# Altium footprint library FPC1.25.PcbLib: 37 footprints (part 2 of 3)
Each footprint in its own frame and in the unit in brackets; x right, y up, seen from the top. Pads: shape width x height; smd on the part's side, far side on the other; paste and mask are expansions set on the pad; w line width, h text height; cw(c..) or ccw(c..) is an arc to the next point about the centre after c.
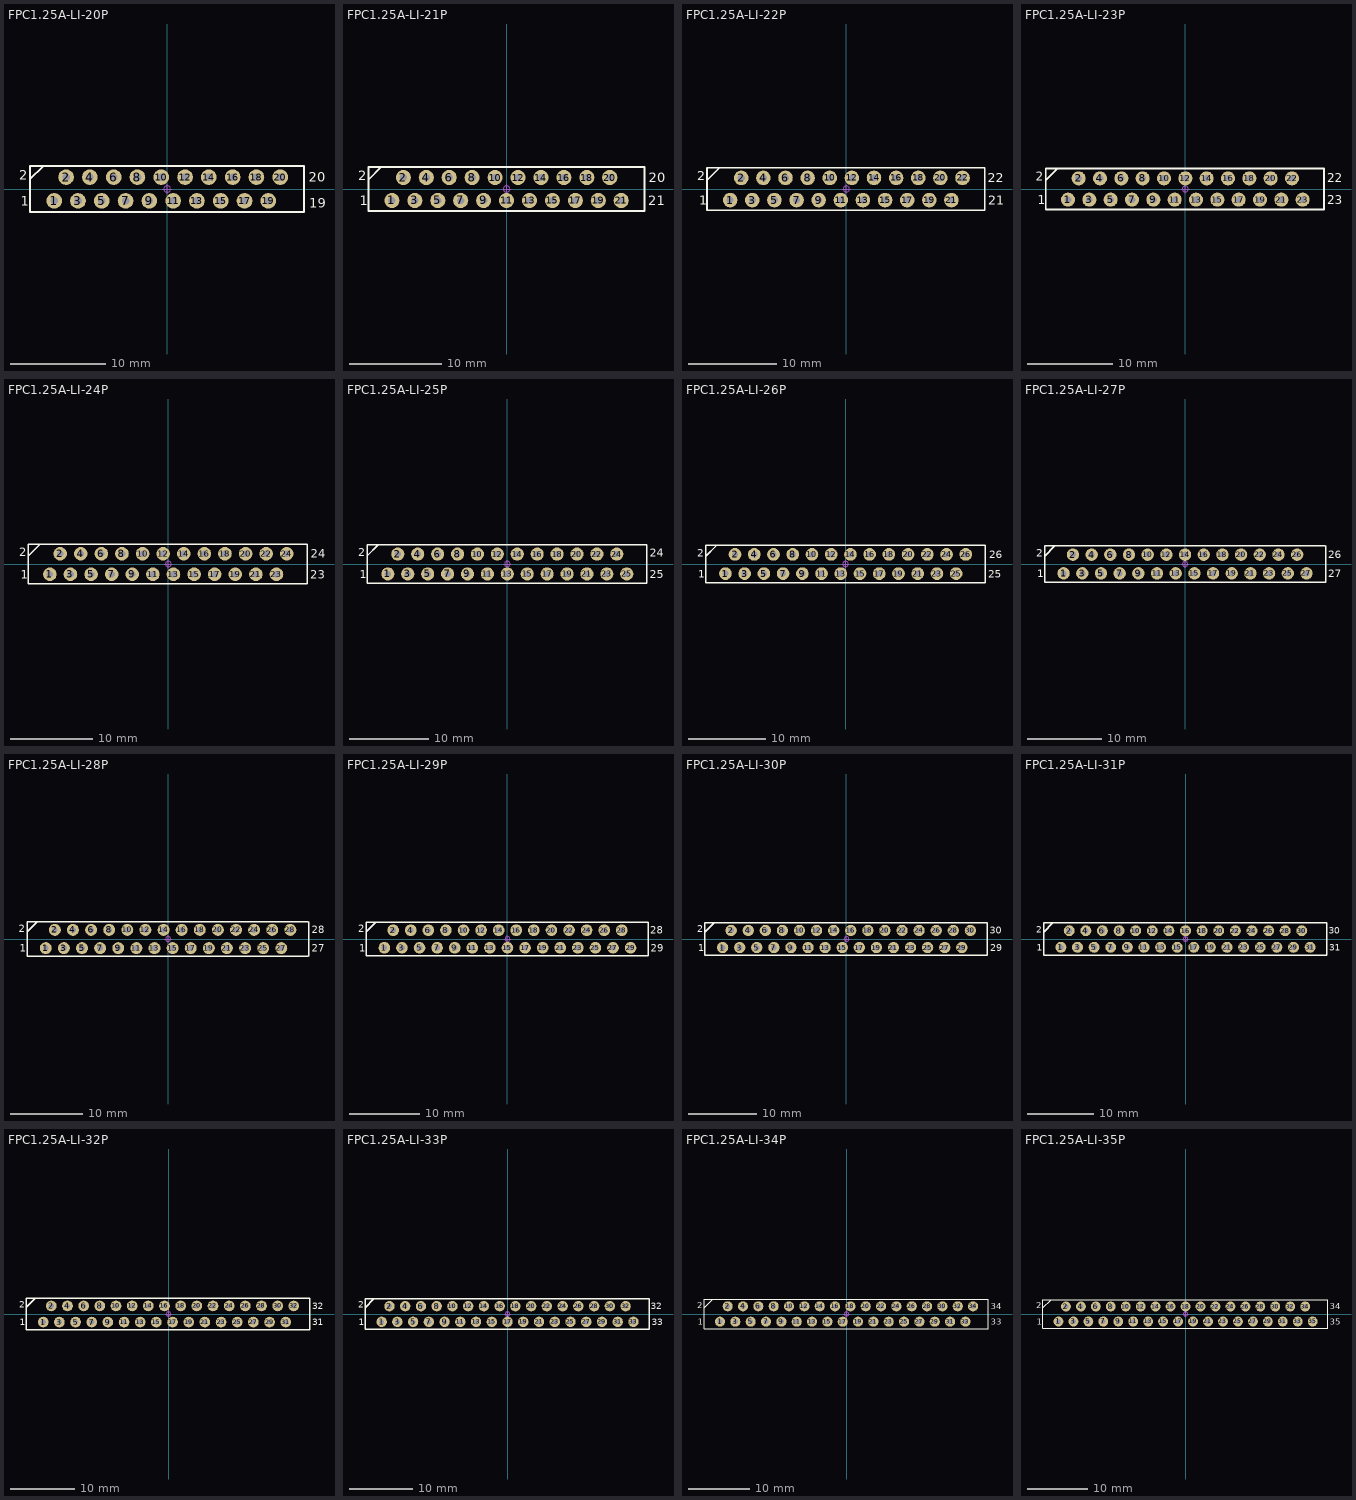
[diagram p1: the footprints below, top view; thin cyan lines are the x and y axes]

## FPC1.25A-LI-20P [mm] "20脚，长：28.5mm，宽：4.5mm，高：7.3mm"
pads (20):
  round 1.65 hole 0.8: 1(-11.875,-1.25) 2(-10.625,1.25) 3(-9.375,-1.25) 4(-8.125,1.25) 5(-6.875,-1.25) 6(-5.625,1.25) 7(-4.375,-1.25) 8(-3.125,1.25) 9(-1.875,-1.25) 10(-0.625,1.25) 11(0.625,-1.25) 12(1.875,1.25) 13(3.125,-1.25) 14(4.375,1.25) 15(5.625,-1.25) 16(6.875,1.25) 17(8.125,-1.25) 18(9.375,1.25) 19(10.625,-1.25) 20(11.875,1.25)
Top Overlay:
  lines w0.2: -14.428,1.016 -13.031,2.413 ; -14.428,-2.413 -14.428,2.413 14.375,2.413 14.375,-2.413 -14.428,-2.413
  text "19" at 14.934,-1.981 h1.02
  text "20" at 14.883,0.762 h1.02
  text "2" at -15.571,0.965 h1.02
  text "1" at -15.367,-1.778 h1.02
Mechanical 15:
  circle w0.05: c0,0 r0.35
  lines w0.05: -0.5,0 0.5,0 ; 0,-0.5 0,0.5
3D body: height 7.3, standoff -2.55, extent -14.3,-2.25 14.3,2.25

## FPC1.25A-LI-21P [mm] "21脚，长：29.9mm，宽：4.5mm，高：7.3mm"
pads (21):
  round 1.65 hole 0.8: 1(-12.5,-1.25) 2(-11.25,1.25) 3(-10,-1.25) 4(-8.75,1.25) 5(-7.5,-1.25) 6(-6.25,1.25) 7(-5,-1.25) 8(-3.75,1.25) 9(-2.5,-1.25) 10(-1.25,1.25) 11(0,-1.25) 12(1.25,1.25) 13(2.5,-1.25) 14(3.75,1.25) 15(5,-1.25) 16(6.25,1.25) 17(7.5,-1.25) 18(8.75,1.25) 19(10,-1.25) 20(11.25,1.25) 21(12.5,-1.25)
Top Overlay:
  lines w0.2: -15.053,1.016 -13.656,2.413 ; -15.053,-2.413 -15.053,2.413 15.053,2.413 15.053,-2.413 -15.053,-2.413
  text "21" at 15.434,-1.778 h1.02
  text "20" at 15.494,0.762 h1.02
  text "2" at -16.196,0.965 h1.02
  text "1" at -16.002,-1.778 h1.02
Mechanical 15:
  circle w0.05: c0,0 r0.35
  lines w0.05: -0.5,0 0.5,0 ; 0,-0.5 0,0.5
3D body: height 7.3, standoff -2.55, extent -14.95,-2.25 14.95,2.25

## FPC1.25A-LI-22P [mm] "22脚，长：31mm，宽：4.5mm，高：7.3mm"
pads (22):
  round 1.65 hole 0.8: 1(-13.125,-1.25) 2(-11.875,1.25) 3(-10.625,-1.25) 4(-9.375,1.25) 5(-8.125,-1.25) 6(-6.875,1.25) 7(-5.625,-1.25) 8(-4.375,1.25) 9(-3.125,-1.25) 10(-1.875,1.25) 11(-0.625,-1.25) 12(0.625,1.25) 13(1.875,-1.25) 14(3.125,1.25) 15(4.375,-1.25) 16(5.625,1.25) 17(6.875,-1.25) 18(8.125,1.25) 19(9.375,-1.25) 20(10.625,1.25) 21(11.875,-1.25) 22(13.125,1.25)
Top Overlay:
  lines w0.2: -15.731,1.016 -14.334,2.413 ; -15.731,-2.413 -15.731,2.413 15.625,2.413 15.625,-2.413 -15.731,-2.413
  text "21" at 16.006,-1.778 h1.02
  text "22" at 16.002,0.762 h1.02
  text "2" at -16.874,0.965 h1.02
  text "1" at -16.637,-1.778 h1.02
Mechanical 15:
  circle w0.05: c0,0 r0.35
  lines w0.05: -0.5,0 0.5,0 ; 0,-0.5 0,0.5
3D body: height 7.3, standoff -2.55, extent -15.55,-2.25 15.55,2.25

## FPC1.25A-LI-23P [mm] "23脚，长：32.25mm，宽：4.5mm，高：7.3mm"
pads (23):
  round 1.65 hole 0.8: 1(-13.75,-1.25) 2(-12.5,1.25) 3(-11.25,-1.25) 4(-10,1.25) 5(-8.75,-1.25) 6(-7.5,1.25) 7(-6.25,-1.25) 8(-5,1.25) 9(-3.75,-1.25) 10(-2.5,1.25) 11(-1.25,-1.25) 12(0,1.25) 13(1.25,-1.25) 14(2.5,1.25) 15(3.75,-1.25) 16(5,1.25) 17(6.25,-1.25) 18(7.5,1.25) 19(8.75,-1.25) 20(10,1.25) 21(11.25,-1.25) 22(12.5,1.25) 23(13.75,-1.25)
Top Overlay:
  lines w0.2: -16.356,1.016 -14.959,2.413 ; -16.356,-2.413 16.25,-2.413 16.25,2.413 -16.356,2.413 -16.356,-2.413
  text "1" at -17.272,-1.778 h1.02
  text "2" at -17.499,0.965 h1.02
  text "22" at 16.637,0.762 h1.02
  text "23" at 16.631,-1.778 h1.02
Mechanical 15:
  circle w0.05: c0,0 r0.35
  lines w0.05: -0.5,0 0.5,0 ; 0,-0.5 0,0.5
3D body: height 7.3, standoff -2.55, extent -16.175,-2.25 16.175,2.25

## FPC1.25A-LI-24P [mm] "24脚，长：33.5mm，宽：4.5mm，高：7.3mm"
pads (24):
  round 1.65 hole 0.8: 1(-14.375,-1.25) 2(-13.125,1.25) 3(-11.875,-1.25) 4(-10.625,1.25) 5(-9.375,-1.25) 6(-8.125,1.25) 7(-6.875,-1.25) 8(-5.625,1.25) 9(-4.375,-1.25) 10(-3.125,1.25) 11(-1.875,-1.25) 12(-0.625,1.25) 13(0.625,-1.25) 14(1.875,1.25) 15(3.125,-1.25) 16(4.375,1.25) 17(5.625,-1.25) 18(6.875,1.25) 19(8.125,-1.25) 20(9.375,1.25) 21(10.625,-1.25) 22(11.875,1.25) 23(13.125,-1.25) 24(14.375,1.25)
Top Overlay:
  lines w0.2: -16.981,1.016 -15.584,2.413 ; -16.981,-2.413 -16.981,2.413 16.875,2.413 16.875,-2.413 -16.981,-2.413
  text "23" at 17.256,-1.778 h1.02
  text "24" at 17.272,0.762 h1.02
  text "2" at -18.124,0.965 h1.02
  text "1" at -17.907,-1.778 h1.02
Mechanical 15:
  circle w0.05: c0,0 r0.35
  lines w0.05: -0.5,0 0.5,0 ; 0,-0.5 0,0.5
3D body: height 7.3, standoff -2.55, extent -16.8,-2.25 16.8,2.25

## FPC1.25A-LI-25P [mm] "25脚，长：34.75mm，宽：4.5mm，高：7.3mm"
pads (25):
  round 1.65 hole 0.8: 1(-15,-1.25) 2(-13.75,1.25) 3(-12.5,-1.25) 4(-11.25,1.25) 5(-10,-1.25) 6(-8.75,1.25) 7(-7.5,-1.25) 8(-6.25,1.25) 9(-5,-1.25) 10(-3.75,1.25) 11(-2.5,-1.25) 12(-1.25,1.25) 13(0,-1.25) 14(1.25,1.25) 15(2.5,-1.25) 16(3.75,1.25) 17(5,-1.25) 18(6.25,1.25) 19(7.5,-1.25) 20(8.75,1.25) 21(10,-1.25) 22(11.25,1.25) 23(12.5,-1.25) 24(13.75,1.25) 25(15,-1.25)
Top Overlay:
  lines w0.2: -17.606,1.016 -16.209,2.413 ; -17.606,-2.413 17.5,-2.413 17.5,2.413 -17.606,2.413 -17.606,-2.413
  text "1" at -18.542,-1.778 h1.02
  text "2" at -18.749,0.965 h1.02
  text "24" at 17.907,0.889 h1.02
  text "25" at 17.881,-1.778 h1.02
Mechanical 15:
  circle w0.05: c0,0 r0.35
  lines w0.05: -0.5,0 0.5,0 ; 0,-0.5 0,0.5
3D body: height 7.3, standoff -2.55, extent -17.425,-2.25 17.425,2.25

## FPC1.25A-LI-26P [mm] "26脚，长：36mm，宽：4.5mm，高：7.3mm"
pads (26):
  round 1.65 hole 0.8: 1(-15.625,-1.25) 2(-14.375,1.25) 3(-13.125,-1.25) 4(-11.875,1.25) 5(-10.625,-1.25) 6(-9.375,1.25) 7(-8.125,-1.25) 8(-6.875,1.25) 9(-5.625,-1.25) 10(-4.375,1.25) 11(-3.125,-1.25) 12(-1.875,1.25) 13(-0.625,-1.25) 14(0.625,1.25) 15(1.875,-1.25) 16(3.125,1.25) 17(4.375,-1.25) 18(5.625,1.25) 19(6.875,-1.25) 20(8.125,1.25) 21(9.375,-1.25) 22(10.625,1.25) 23(11.875,-1.25) 24(13.125,1.25) 25(14.375,-1.25) 26(15.625,1.25)
Top Overlay:
  lines w0.2: -18.178,1.016 -16.781,2.413 ; -18.178,-2.413 18.178,-2.413 18.178,2.413 -18.178,2.413 -18.178,-2.413
  text "1" at -19.177,-1.778 h1.02
  text "2" at -19.321,0.965 h1.02
  text "26" at 18.669,0.762 h1.02
  text "25" at 18.559,-1.778 h1.02
Mechanical 15:
  circle w0.05: c0,0 r0.35
  lines w0.05: -0.5,0 0.5,0 ; 0,-0.5 0,0.5
3D body: height 7.3, standoff -2.55, extent -18.05,-2.25 18.05,2.25

## FPC1.25A-LI-27P [mm] "27脚，长：37.25mm，宽：4.5mm，高：7.3mm"
pads (27):
  round 1.65 hole 0.8: 1(-16.25,-1.25) 2(-15,1.25) 3(-13.75,-1.25) 4(-12.5,1.25) 5(-11.25,-1.25) 6(-10,1.25) 7(-8.75,-1.25) 8(-7.5,1.25) 9(-6.25,-1.25) 10(-5,1.25) 11(-3.75,-1.25) 12(-2.5,1.25) 13(-1.25,-1.25) 14(0,1.25) 15(1.25,-1.25) 16(2.5,1.25) 17(3.75,-1.25) 18(5,1.25) 19(6.25,-1.25) 20(7.5,1.25) 21(8.75,-1.25) 22(10,1.25) 23(11.25,-1.25) 24(12.5,1.25) 25(13.75,-1.25) 26(15,1.25) 27(16.25,-1.25)
Top Overlay:
  lines w0.2: -18.803,1.016 -17.406,2.413 ; 18.75,2.413 -18.803,2.413 -18.803,-2.413 18.803,-2.413 18.803,2.413
  text "27" at 19.184,-1.778 h1.02
  text "26" at 19.177,0.762 h1.02
  text "2" at -19.946,0.965 h1.02
  text "1" at -19.812,-1.778 h1.02
Mechanical 15:
  circle w0.05: c0,0 r0.35
  lines w0.05: -0.5,0 0.5,0 ; 0,-0.5 0,0.5
3D body: height 7.3, standoff -2.55, extent -18.675,-2.25 18.675,2.25

## FPC1.25A-LI-28P [mm] "28脚，长：38.7mm，宽：4.5mm，高：7.3mm"
pads (28):
  round 1.65 hole 0.8: 1(-16.875,-1.25) 2(-15.625,1.25) 3(-14.375,-1.25) 4(-13.125,1.25) 5(-11.875,-1.25) 6(-10.625,1.25) 7(-9.375,-1.25) 8(-8.125,1.25) 9(-6.875,-1.25) 10(-5.625,1.25) 11(-4.375,-1.25) 12(-3.125,1.25) 13(-1.875,-1.25) 14(-0.625,1.25) 15(0.625,-1.25) 16(1.875,1.25) 17(3.125,-1.25) 18(4.375,1.25) 19(5.625,-1.25) 20(6.875,1.25) 21(8.125,-1.25) 22(9.375,1.25) 23(10.625,-1.25) 24(11.875,1.25) 25(13.125,-1.25) 26(14.375,1.25) 27(15.625,-1.25) 28(16.875,1.25)
Top Overlay:
  lines w0.2: -19.428,1.016 -18.031,2.413 ; 19.35,-2.413 -19.428,-2.413 -19.428,2.413 19.375,2.413 ; 19.428,-2.413 19.428,2.413
  text "27" at 19.809,-1.778 h1.02
  text "28" at 19.812,0.762 h1.02
  text "2" at -20.571,0.965 h1.02
  text "1" at -20.447,-1.778 h1.02
Mechanical 15:
  circle w0.05: c0,0 r0.35
  lines w0.05: -0.5,0 0.5,0 ; 0,-0.5 0,0.5
3D body: height 7.3, standoff -2.55, extent -19.35,-2.25 19.35,2.25

## FPC1.25A-LI-29P [mm] "29脚，长：39.75mm，宽：4.5mm，高：7.3mm"
pads (29):
  round 1.65 hole 0.8: 1(-17.5,-1.25) 2(-16.25,1.25) 3(-15,-1.25) 4(-13.75,1.25) 5(-12.5,-1.25) 6(-11.25,1.25) 7(-10,-1.25) 8(-8.75,1.25) 9(-7.5,-1.25) 10(-6.25,1.25) 11(-5,-1.25) 12(-3.75,1.25) 13(-2.5,-1.25) 14(-1.25,1.25) 15(0,-1.25) 16(1.25,1.25) 17(2.5,-1.25) 18(3.75,1.25) 19(5,-1.25) 20(6.25,1.25) 21(7.5,-1.25) 22(8.75,1.25) 23(10,-1.25) 24(11.25,1.25) 25(12.5,-1.25) 26(13.75,1.25) 27(15,-1.25) 28(16.25,1.25) 29(17.5,-1.25)
Top Overlay:
  lines w0.2: -20.106,1.016 -18.709,2.413 ; -20.106,-2.413 20,-2.413 20,2.413 -20.106,2.413 -20.106,-2.413
  text "1" at -21.082,-1.778 h1.02
  text "2" at -21.249,0.965 h1.02
  text "28" at 20.32,0.762 h1.02
  text "29" at 20.381,-1.778 h1.02
Mechanical 15:
  circle w0.05: c0,0 r0.35
  lines w0.05: -0.5,0 0.5,0 ; 0,-0.5 0,0.5
3D body: height 7.3, standoff -2.55, extent -19.925,-2.25 19.925,2.25

## FPC1.25A-LI-30P [mm] "30脚，长：41mm，宽：4.5mm，高：7.3mm"
pads (30):
  round 1.65 hole 0.8: 1(-18.125,-1.25) 2(-16.875,1.25) 3(-15.625,-1.25) 4(-14.375,1.25) 5(-13.125,-1.25) 6(-11.875,1.25) 7(-10.625,-1.25) 8(-9.375,1.25) 9(-8.125,-1.25) 10(-6.875,1.25) 11(-5.625,-1.25) 12(-4.375,1.25) 13(-3.125,-1.25) 14(-1.875,1.25) 15(-0.625,-1.25) 16(0.625,1.25) 17(1.875,-1.25) 18(3.125,1.25) 19(4.375,-1.25) 20(5.625,1.25) 21(6.875,-1.25) 22(8.125,1.25) 23(9.375,-1.25) 24(10.625,1.25) 25(11.875,-1.25) 26(13.125,1.25) 27(14.375,-1.25) 28(15.625,1.25) 29(16.875,-1.25) 30(18.125,1.25)
Top Overlay:
  lines w0.2: -20.731,1.016 -19.334,2.413 ; -20.731,-2.413 20.625,-2.413 20.625,2.413 -20.731,2.413 -20.731,-2.413
  text "1" at -21.717,-1.778 h1.02
  text "2" at -21.874,0.965 h1.02
  text "30" at 20.955,0.762 h1.02
  text "29" at 21.006,-1.778 h1.02
Mechanical 15:
  circle w0.05: c0,0 r0.35
  lines w0.05: -0.5,0 0.5,0 ; 0,-0.5 0,0.5
3D body: height 7.3, standoff -2.55, extent -20.55,-2.25 20.55,2.25

## FPC1.25A-LI-31P [mm] "31脚，长：42.25mm，宽：4.5mm，高：7.3mm"
pads (31):
  round 1.65 hole 0.8: 1(-18.75,-1.25) 2(-17.5,1.25) 3(-16.25,-1.25) 4(-15,1.25) 5(-13.75,-1.25) 6(-12.5,1.25) 7(-11.25,-1.25) 8(-10,1.25) 9(-8.75,-1.25) 10(-7.5,1.25) 11(-6.25,-1.25) 12(-5,1.25) 13(-3.75,-1.25) 14(-2.5,1.25) 15(-1.25,-1.25) 16(0,1.25) 17(1.25,-1.25) 18(2.5,1.25) 19(3.75,-1.25) 20(5,1.25) 21(6.25,-1.25) 22(7.5,1.25) 23(8.75,-1.25) 24(10,1.25) 25(11.25,-1.25) 26(12.5,1.25) 27(13.75,-1.25) 28(15,1.25) 29(16.25,-1.25) 30(17.5,1.25) 31(18.75,-1.25)
Top Overlay:
  lines w0.2: -21.356,1.016 -19.959,2.413 ; -21.356,-2.413 -21.356,2.413 21.25,2.413 21.25,-2.413 -21.356,-2.413
  text "31" at 21.631,-1.778 h1.02
  text "30" at 21.59,0.762 h1.02
  text "2" at -22.499,0.965 h1.02
  text "1" at -22.352,-1.778 h1.02
Mechanical 15:
  circle w0.05: c0,0 r0.35
  lines w0.05: -0.5,0 0.5,0 ; 0,-0.5 0,0.5
3D body: height 7.3, standoff -2.55, extent -21.175,-2.25 21.175,2.25

## FPC1.25A-LI-32P [mm] "32脚，长：43.5mm，宽：4.5mm，高：7.3mm"
pads (32):
  round 1.65 hole 0.8: 1(-19.375,-1.25) 2(-18.125,1.25) 3(-16.875,-1.25) 4(-15.625,1.25) 5(-14.375,-1.25) 6(-13.125,1.25) 7(-11.875,-1.25) 8(-10.625,1.25) 9(-9.375,-1.25) 10(-8.125,1.25) 11(-6.875,-1.25) 12(-5.625,1.25) 13(-4.375,-1.25) 14(-3.125,1.25) 15(-1.875,-1.25) 16(-0.625,1.25) 17(0.625,-1.25) 18(1.875,1.25) 19(3.125,-1.25) 20(4.375,1.25) 21(5.625,-1.25) 22(6.875,1.25) 23(8.125,-1.25) 24(9.375,1.25) 25(10.625,-1.25) 26(11.875,1.25) 27(13.125,-1.25) 28(14.375,1.25) 29(15.625,-1.25) 30(16.875,1.25) 31(18.125,-1.25) 32(19.375,1.25)
Top Overlay:
  lines w0.2: -21.981,1.016 -20.584,2.413 ; -21.981,-2.413 -21.981,2.413 21.875,2.413 21.875,-2.413 -21.981,-2.413
  text "31" at 22.256,-1.778 h1.02
  text "32" at 22.225,0.762 h1.02
  text "2" at -23.124,0.965 h1.02
  text "1" at -22.987,-1.778 h1.02
Mechanical 15:
  circle w0.05: c0,0 r0.35
  lines w0.05: -0.5,0 0.5,0 ; 0,-0.5 0,0.5
3D body: height 7.3, standoff -2.55, extent -21.8,-2.25 21.8,2.25

## FPC1.25A-LI-33P [mm] "33脚，长：44.75mm，宽：4.5mm，高：7.3mm"
pads (33):
  round 1.65 hole 0.8: 1(-20,-1.25) 2(-18.75,1.25) 3(-17.5,-1.25) 4(-16.25,1.25) 5(-15,-1.25) 6(-13.75,1.25) 7(-12.5,-1.25) 8(-11.25,1.25) 9(-10,-1.25) 10(-8.75,1.25) 11(-7.5,-1.25) 12(-6.25,1.25) 13(-5,-1.25) 14(-3.75,1.25) 15(-2.5,-1.25) 16(-1.25,1.25) 17(0,-1.25) 18(1.25,1.25) 19(2.5,-1.25) 20(3.75,1.25) 21(5,-1.25) 22(6.25,1.25) 23(7.5,-1.25) 24(8.75,1.25) 25(10,-1.25) 26(11.25,1.25) 27(12.5,-1.25) 28(13.75,1.25) 29(15,-1.25) 30(16.25,1.25) 31(17.5,-1.25) 32(18.75,1.25) 33(20,-1.25)
Top Overlay:
  lines w0.2: -22.606,1.016 -21.209,2.413 ; -22.606,-2.413 -22.606,2.413 22.5,2.413 22.5,-2.413 -22.606,-2.413
  text "33" at 22.881,-1.778 h1.02
  text "32" at 22.733,0.762 h1.02
  text "2" at -23.749,0.965 h1.02
  text "1" at -23.622,-1.778 h1.02
Mechanical 15:
  circle w0.05: c0,0 r0.35
  lines w0.05: -0.5,0 0.5,0 ; 0,-0.5 0,0.5
3D body: height 7.3, standoff -2.55, extent -22.425,-2.25 22.425,2.25

## FPC1.25A-LI-34P [mm] "34脚，长：46mm，宽：4.5mm，高：7.3mm"
pads (34):
  round 1.65 hole 0.8: 1(-20.625,-1.25) 2(-19.375,1.25) 3(-18.125,-1.25) 4(-16.875,1.25) 5(-15.625,-1.25) 6(-14.375,1.25) 7(-13.125,-1.25) 8(-11.875,1.25) 9(-10.625,-1.25) 10(-9.375,1.25) 11(-8.125,-1.25) 12(-6.875,1.25) 13(-5.625,-1.25) 14(-4.375,1.25) 15(-3.125,-1.25) 16(-1.875,1.25) 17(-0.625,-1.25) 18(0.625,1.25) 19(1.875,-1.25) 20(3.125,1.25) 21(4.375,-1.25) 22(5.625,1.25) 23(6.875,-1.25) 24(8.125,1.25) 25(9.375,-1.25) 26(10.625,1.25) 27(11.875,-1.25) 28(13.125,1.25) 29(14.375,-1.25) 30(15.625,1.25) 31(16.875,-1.25) 32(18.125,1.25) 33(19.375,-1.25) 34(20.625,1.25)
Top Overlay:
  lines w0.2: -23.231,1.016 -21.834,2.413 ; -23.231,-2.413 -23.231,2.413 23.125,2.413 23.125,-2.413 -23.231,-2.413
  text "33" at 23.506,-1.778 h1.02
  text "34" at 23.495,0.762 h1.02
  text "2" at -24.374,0.965 h1.02
  text "1" at -24.257,-1.778 h1.02
Mechanical 15:
  circle w0.05: c0,0 r0.35
  lines w0.05: -0.5,0 0.5,0 ; 0,-0.5 0,0.5
3D body: height 7.3, standoff -2.55, extent -23.05,-2.25 23.05,2.25

## FPC1.25A-LI-35P [mm] "35脚，长：47.25mm，宽：4.5mm，高：7.3mm"
pads (35):
  round 1.65 hole 0.8: 1(-21.25,-1.25) 2(-20,1.25) 3(-18.75,-1.25) 4(-17.5,1.25) 5(-16.25,-1.25) 6(-15,1.25) 7(-13.75,-1.25) 8(-12.5,1.25) 9(-11.25,-1.25) 10(-10,1.25) 11(-8.75,-1.25) 12(-7.5,1.25) 13(-6.25,-1.25) 14(-5,1.25) 15(-3.75,-1.25) 16(-2.5,1.25) 17(-1.25,-1.25) 18(0,1.25) 19(1.25,-1.25) 20(2.5,1.25) 21(3.75,-1.25) 22(5,1.25) 23(6.25,-1.25) 24(7.5,1.25) 25(8.75,-1.25) 26(10,1.25) 27(11.25,-1.25) 28(12.5,1.25) 29(13.75,-1.25) 30(15,1.25) 31(16.25,-1.25) 32(17.5,1.25) 33(18.75,-1.25) 34(20,1.25) 35(21.25,-1.25)
Top Overlay:
  lines w0.2: -23.856,1.016 -22.459,2.413 ; -23.856,-2.413 23.75,-2.413 23.75,2.413 -23.856,2.413 -23.856,-2.413
  text "1" at -24.892,-1.778 h1.02
  text "2" at -24.999,0.965 h1.02
  text "34" at 24.13,0.762 h1.02
  text "35" at 24.131,-1.778 h1.02
Mechanical 15:
  circle w0.05: c0,0 r0.35
  lines w0.05: -0.5,0 0.5,0 ; 0,-0.5 0,0.5
3D body: height 7.3, standoff -2.55, extent -23.675,-2.25 23.675,2.25